# EAGLE library part OPA1612AID (library OPA1612AID)
Audio Amplifiers 1.1nV Noise Low Pwr Prec Op Amp Source: Datasheet <https://www.ti.com/lit/gpn/OPA1612>
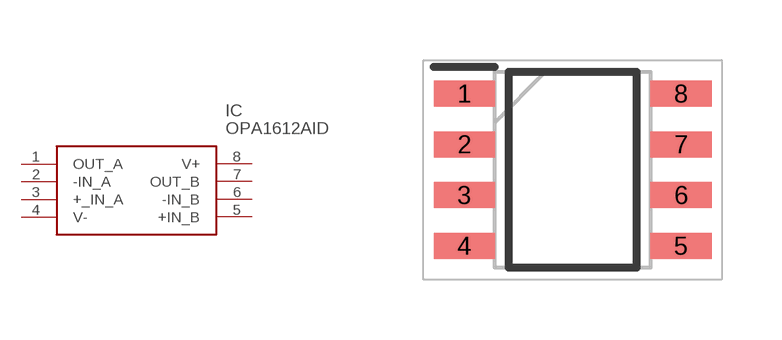
[diagram p0: symbol with the pads of SOIC127P600X175-8N; footprint SOIC127P600X175-8N]

Designator prefix IC

## OPA1612AID (Description: Audio Amplifiers 1.1nV Noise Low Pwr Prec Op Amp; Height: 1.75mm; Manufacturer_Name: Texas Instruments; Manufacturer_Part_Number: OPA1612AID; Mouser_Part_Number: 595-OPA1612AID; Mouser_Price-Stock: https://www.mouser.co.uk/ProductDetail/Texas-Instruments/OPA1612AID?qs=6805eV47HhZ33ht61fXkkg%3D%3D)  [SOIC127P600X175-8N]
1  OUT_A
2  -IN_A
3  +_IN_A
4  V-
5  +IN_B
6  -IN_B
7  OUT_B
8  V+

## Footprint SOIC127P600X175-8N (pad centres in mm)
D0008A
smd 1.528 x 0.65: 1 -2.711,1.905; 2 -2.711,0.635; 3 -2.711,-0.635; 4 -2.711,-1.905; 5 2.711,-1.905; 6 2.711,-0.635; 7 2.711,0.635; 8 2.711,1.905